# Altium footprint library PIFWRobot.PcbLib: 9 footprints
Each footprint in its own frame and in the unit in brackets; x right, y up, seen from the top. Pads: shape width x height; smd on the part's side, far side on the other; paste and mask are expansions set on the pad; w line width, h text height; cw(c..) or ccw(c..) is an arc to the next point about the centre after c.
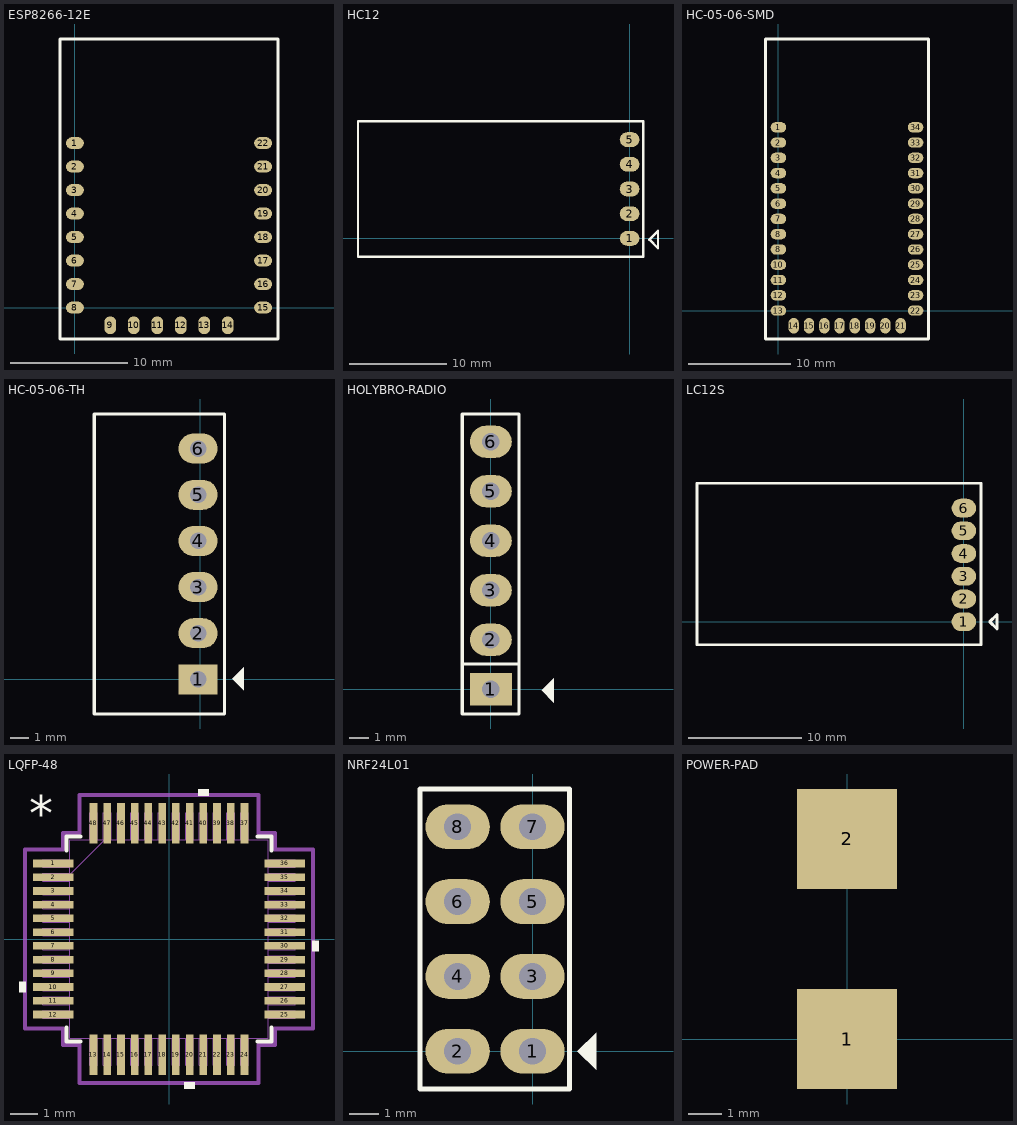
[diagram p0: the footprints below, top view; thin cyan lines are the x and y axes]

## ESP8266-12E [mil]
pads (22):
  oval 60x40 smd: 1(0,551.18) 2(0,472.44) 3(0,393.7) 4(0,314.96) 5(0,236.22) 6(0,157.48) 7(0,78.74) 8(0,0) 15(630,0) 16(630,78.74) 17(630,157.48) 18(630,236.22) 19(630,314.96) 20(630,393.7) 21(630,472.44) 22(630,551.18)
  oval 40x60 smd: 9(118.11,-59.06) 10(196.85,-59.06) 11(275.59,-59.06) 12(354.33,-59.06) 13(433.07,-59.06) 14(511.81,-59.06)
Top Overlay:
  lines w10: -50,-105 680,-105 680,900 -50,900 -50,-105
3D body "User Library-EPS8266 ESP-12E-1.STEP": height 104.33, standoff -1.38, extent -0.16,-60 630.16,885.08

## HC12 [mil]
pads (5):
  oval 80x60 smd: 1(0,0) 2(0,100) 3(0,200) 4(0,300) 5(0,400)
Top Overlay:
  lines w10: -1100,-75 55,-75 55,475 -1100,475 -1100,-75 ; 80,-5 115,-40 115,30 80,-5
3D body "HC-12 SI4463 WIRELESS SERIAL MODULE.x_b": height 1019.66, standoff 0, extent -1089.11,-61.81 1.35,461.81

## HC-05-06-SMD [mil]
pads (34):
  oval 60x40 smd: 1(0,708.66) 2(0,649.61) 3(0,590.55) 4(0,531.5) 5(0,472.44) 6(0,413.39) 7(0,354.33) 8(0,236.22) 8(0,295.28) 10(0,177.17) 11(0,118.11) 12(0,59.06) 13(0,0) 22(530,0) 23(530,59.06) 24(530,118.11) 25(530,177.17) 26(530,236.22) 27(530,295.28) 28(530,354.33) 29(530,413.39) 30(530,472.44) 31(530,531.5) 32(530,590.55) 33(530,649.61) 34(530,708.66)
  oval 40x60 smd: 14(59.06,-59.06) 15(118.11,-59.06) 16(177.17,-59.06) 17(236.22,-59.06) 18(295.28,-59.06) 19(354.33,-59.06) 20(413.39,-59.06) 21(472.44,-59.06)
Top Overlay:
  lines w10: -50,-110 580,-110 580,1050 -50,1050 -50,-110
3D body "User Library-Bluetooth HC-06_.STEP": height 92.52, standoff 0, extent -10,-71.38 541.97,1031.38

## HC-05-06-TH [mil]
pads (6):
  rect 85x65 hole 36: 1(-5,0)
  oval 85x65 hole 36: 2(-5,100) 3(-5,200) 4(-5,300) 5(-5,400) 6(-5,500)
Top Overlay:
  region: 69,1 94,-24 94,26
  lines w7: -230,-75 -230,575 52,575 52,-75 -230,-75
3D body "hc05.STEP": height 1500, standoff -177.17, extent -220,-66.93 12.29,566.93

## HOLYBRO-RADIO [mil] "JP6"
height 200
pads (6):
  rect 85x65 hole 36: 1(0,0)
  oval 85x65 hole 36: 2(0,100) 3(0,200) 4(0,300) 5(0,400) 6(0,500)
Top Overlay:
  region: 102.5,-2.5 127.5,-27.5 127.5,22.5
  lines w7: -56,51 57,51 ; -58,-50 57,-50 57,556 -58,556 -58,-50
3D body "JST - XH - Thru (V) - 6Pin - 2.54mm.stp": height 284, standoff -118, extent -130,-92 100,592

## LC12S [mil]
pads (6):
  oval 85x65 smd: 1(0,0) 2(0,78.74) 3(0,157.48) 4(0,236.22) 5(0,314.96) 6(0,393.7)
Top Overlay:
  lines w10: -925,-80 60,-80 60,480 -925,480 -925,-80 ; 90,0 115,-25 115,25 90,0
3D body "LC12S.STEP": height 78.74, standoff 0, extent -912.32,-69.69 5,469.69

## LQFP-48 [mil]
pads (48):
  rect 58x11 smd: 1(-166,108.27) 2(-166,88.58) 3(-166,68.9) 4(-166,49.21) 5(-166,29.53) 6(-166,9.84) 7(-166,-9.84) 8(-166,-29.53) 9(-166,-49.21) 10(-166,-68.9) 11(-166,-88.58) 12(-166,-108.27) 25(166,-108.27) 26(166,-88.58) 27(166,-68.9) 28(166,-49.21) 29(166,-29.53) 30(166,-9.84) 31(166,9.84) 32(166,29.53) 33(166,49.21) 34(166,68.9) 35(166,88.58) 36(166,108.27)
  rect 11x58 smd: 13(-108.27,-166) 14(-88.58,-166) 15(-68.9,-166) 16(-49.21,-166) 17(-29.53,-166) 18(-9.84,-166) 19(9.84,-166) 20(29.53,-166) 21(49.21,-166) 22(68.9,-166) 23(88.58,-166) 24(108.27,-166) 37(108.27,166) 38(88.58,166) 39(68.9,166) 40(49.21,166) 41(29.53,166) 42(9.84,166) 43(-9.84,166) 44(-29.53,166) 45(-49.21,166) 46(-68.9,166) 47(-88.58,166) 48(-108.27,166)
Top Overlay:
  region: 56.71,205 41.71,205 41.71,215 56.71,215
  region: 205,-2.34 215,-2.34 215,-17.34 205,-17.34
  region: 37.03,-205 22.03,-205 22.03,-215 37.03,-215
  region: -205,-61.4 -215,-61.4 -215,-76.4 -205,-76.4
  lines w6: -147,-126.87 -147,-147 -126.87,-147 ; -147,126.87 -147,147 -126.87,147 ; 126.87,-147 147,-147 147,-126.87 ; 126.87,147 147,147 147,126.87
  text "*" at -200,155 h50
Mechanical 13:
  drawing of 197 lines, arcs and shapes, not listed
Mechanical 15:
  lines w6: -206.5,-128.27 -206.5,128.27 -152,128.27 -152,152 -128.27,152 -128.27,206.5 128.27,206.5 128.27,152 152,152 152,128.27 206.5,128.27 206.5,-128.27 152,-128.27 152,-152 128.27,-152 128.27,-206.5 -128.27,-206.5 -128.27,-152 -152,-152 -152,-128.27 -206.5,-128.27
3D body "LQFP-48.step": height 63.11, standoff 0, extent -180.98,-180.98 180.99,180.99
3D body: height 10, standoff 0, extent 0,0 10,10

## NRF24L01 [mil]
pads (8):
  oval 86x60 hole 36: 1(0,0) 2(-100,0) 3(0,100) 4(-100,100) 5(0,200) 6(-100,200) 7(0,300) 8(-100,300)
Top Overlay:
  region: 60,0 85,-25 85,25
  lines w7: -150.5,-50.5 -150.5,350.5 49.5,350.5 49.5,-50.5 -50.5,-50.5 -150.5,-50.5
3D body "NRF24l01_with_antenna.STEP": height 3660.96, standoff -224.41, extent -2826.3,-150.19 87.09,450.21

## POWER-PAD [mm]
pads (2):
  rect 3x3 smd: 1(0,0) 2(0,6)